# EAGLE library part 39-30-?08?_S (library con-molex-mini-fit)
HEADER
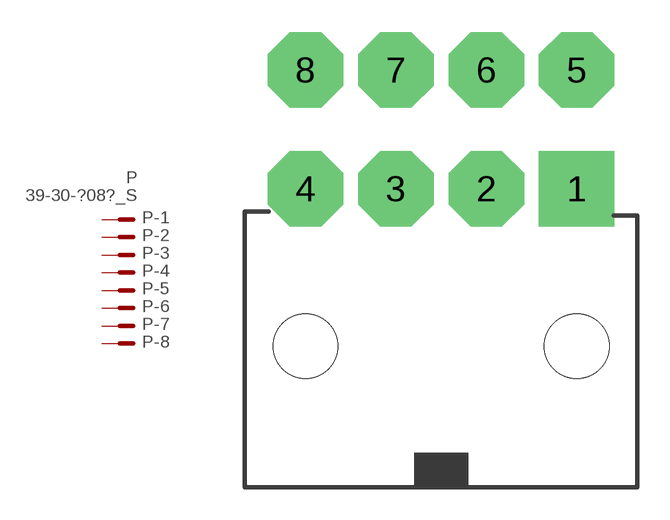
[diagram p11: symbol with the pads of 39-30-?08?; footprint 39-30-?08?]

Designator prefix P; gates -1=P-NV -2=P-N -3=P-N -4=P-N -5=P-N -6=P-N -7=P-N -8=P-N

## 39-30-08_S  [39-30-?08?]
1  -1:P  pas
2  -2:P  pas
3  -3:P  pas
4  -4:P  pas
5  -5:P  pas
6  -6:P  pas
7  -7:P  pas
8  -8:P  pas

## Footprint 39-30-?08? (pad centres in mm)
HEADER
drill 2 pad 3.5 square: 1 6.287,0
drill 2 pad 3.5 octagon: 2 2.095,0; 3 -2.095,0; 4 -6.287,0; 5 6.287,5.512; 6 2.095,5.512; 7 -2.095,5.512; 8 -6.287,5.512
hole 3 at -6.287,-7.3
hole 3 at 6.287,-7.3